# Altium footprint library RKB2SJG250SMTRLFS.PcbLib: 1 footprints
Each footprint in its own frame and in the unit in brackets; x right, y up, seen from the top. Pads: shape width x height; smd on the part's side, far side on the other; paste and mask are expansions set on the pad; w line width, h text height; cw(c..) or ccw(c..) is an arc to the next point about the centre after c.
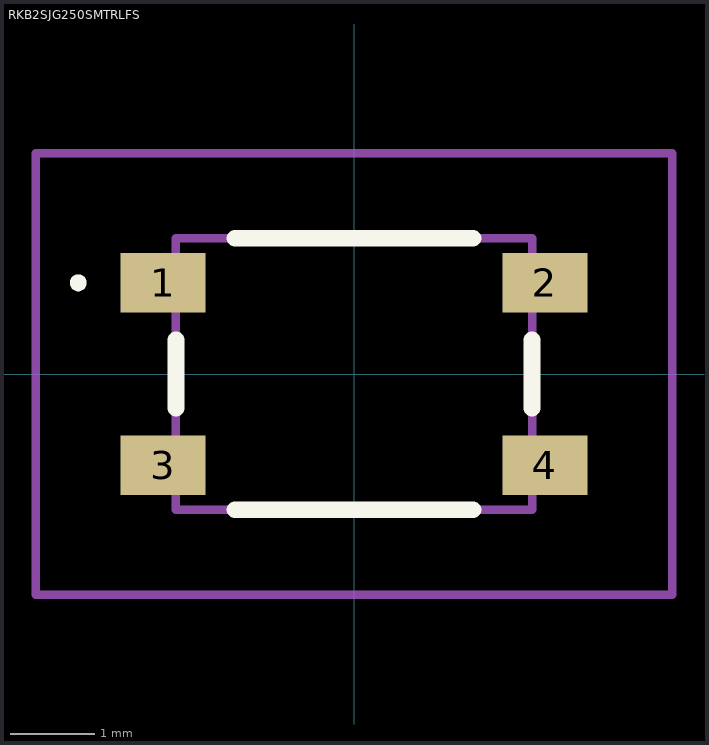
[diagram p0: the footprint, top view; thin cyan lines are the x and y axes]

## RKB2SJG250SMTRLFS [mm]
pads (4):
  rect 1x0.7 smd: 1(-2.25,1.075) 2(2.25,1.075) 3(-2.25,-1.075) 4(2.25,-1.075)
Top Overlay:
  lines w0.1: -3.3,1.075 -3.3,1.075 ; -3.3,1.075 ccw(c-3.25,1.075) -3.2,1.075 ; -3.3,1.075 cw(c-3.25,1.075) -3.2,1.075 ; -3.2,1.075 -3.2,1.075
  lines w0.2: -2.1,-0.4 -2.1,0.4 ; -1.4,-1.6 1.4,-1.6 ; -1.4,1.6 1.4,1.6 ; 2.1,-0.4 2.1,0.4
Mechanical 15:
  lines w0.1: -2.1,-1.6 2.1,-1.6 2.1,1.6 -2.1,1.6 -2.1,-1.6
Mechanical 20:
  lines w0.1: -3.75,-2.6 3.75,-2.6 3.75,2.6 -3.75,2.6 -3.75,-2.6